# Altium integrated library RDM6300.IntLib: 1 symbol
Pins are listed as number, name and electrical type; pins without a type are passive.

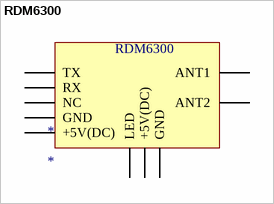
[diagram p0: symbol RDM6300]

## RDM6300
designator *
footprint RDM6300 (made by Reza Hadipour)
pins: 1 TX, 2 RX, 3 NC, 4 GND, 5 +5V(DC), 6 LED, 7 +5V(DC), 8 GND, 9 ANT2, 10 ANT1